# Altium schematic symbol library kmilo17pet-LT_OpAmp_LT2000.SchLib: 1710 symbols (part 74 of 75)
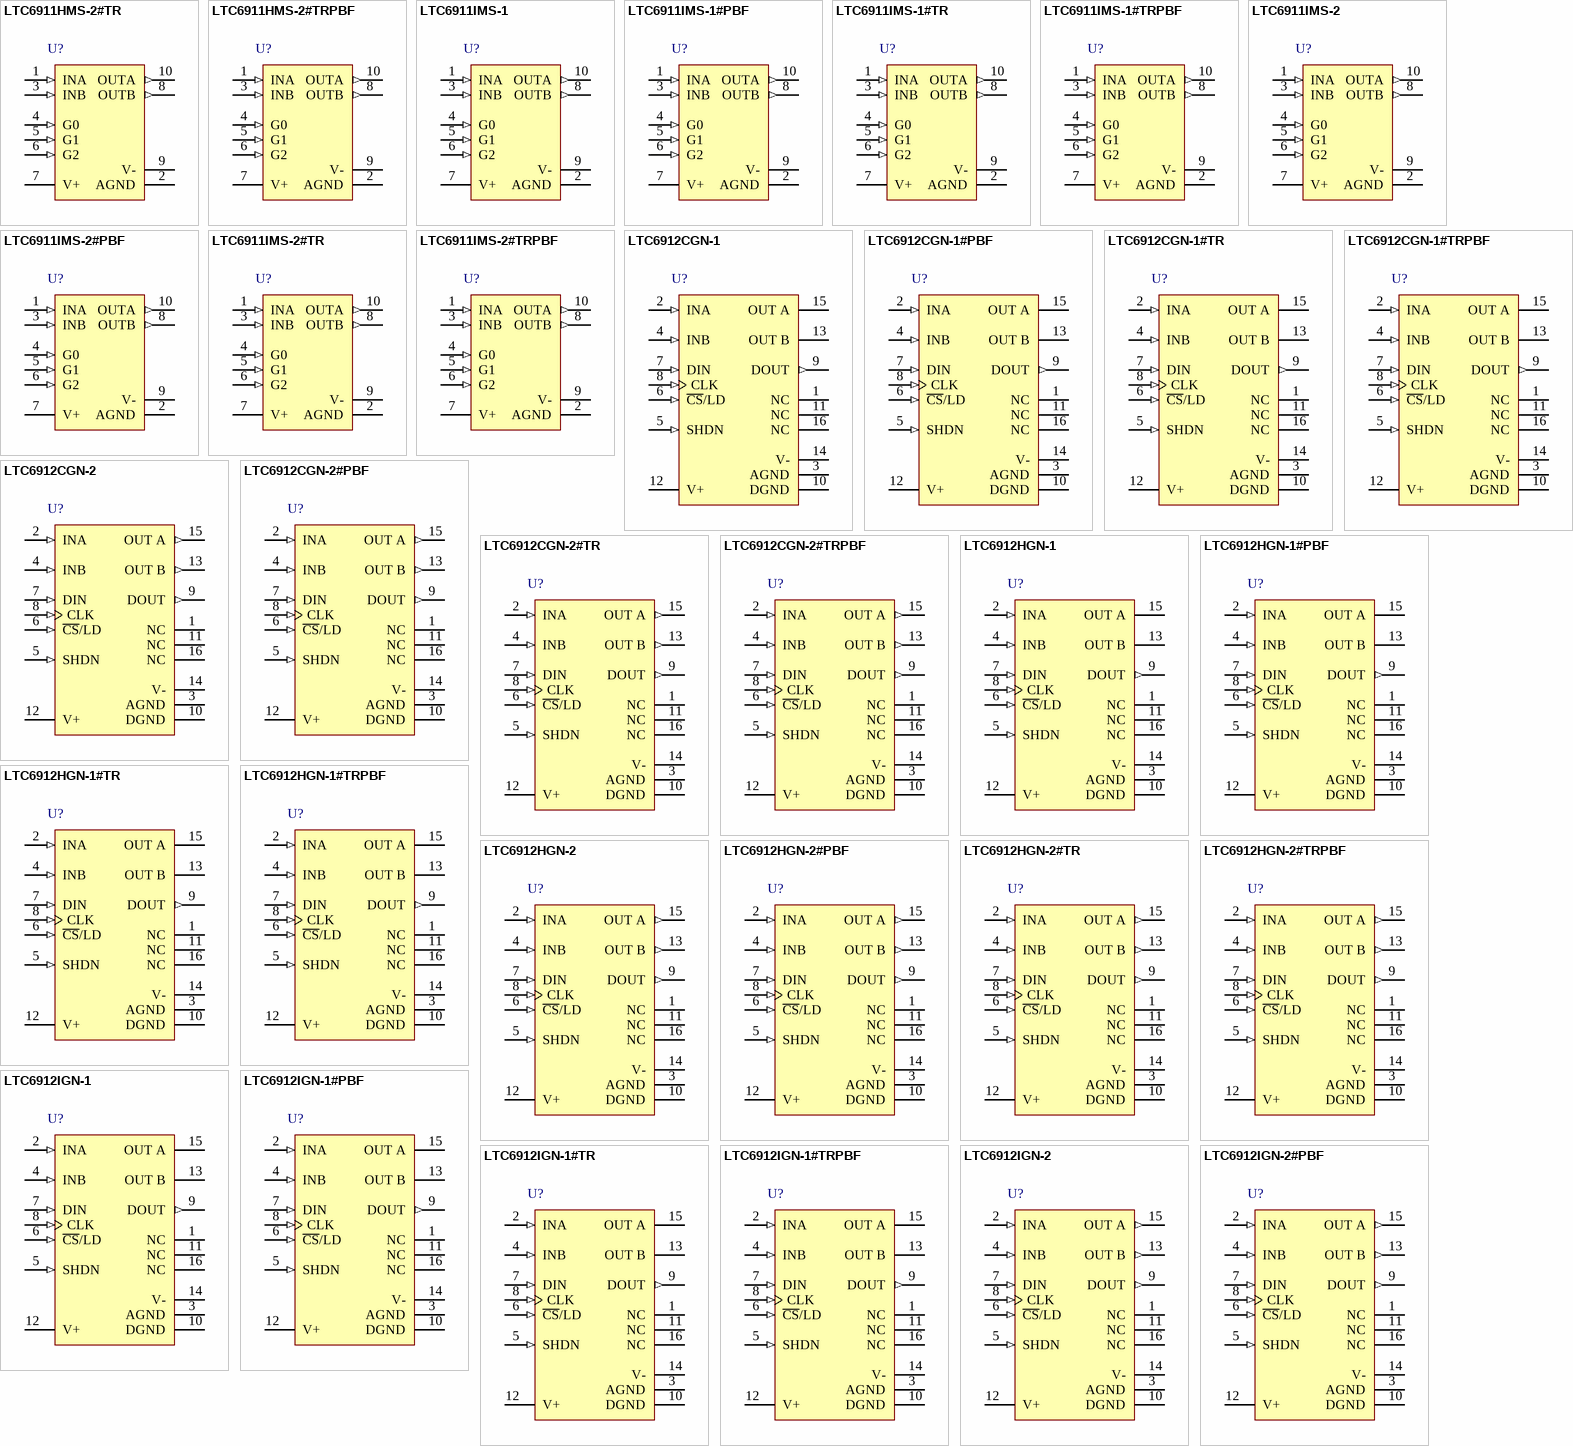
[diagram p153: symbols LTC6911HMS-2#TR to LTC6912IGN-2#PBF]

## LTC6912HGN-2#TRPBF
designator U?
Dual Channel, Dual Programmable Gain Amplifier with Serial Digital Interface, 30 MHz Typical GBW, 16 V/us Typical SR, 2.7 to 10.5 V, 16-Pin SOP (GN-16), High Temperature / Automotive, Pb-Free, Reel; Linear Technology Part Number: LTC6912-2; Manufacturer: Linear Technology; PartNumber: LTC6912HGN-2#TRPBF; Channels (#): 2; GBW (MHz) Typical: 30; Is (mA) Typical: 1.75; SR (V/us) Typical: 16; Vs Max (V): 10.5; Vs Min (V): 2.7; DatasheetVersion: Rev. A; PackageVersion: Rev B; PackageReference: LT-GN-16; PackageDescription: 16-Lead Plastic SSOP, Body 4.9 x 3.9 mm, Pitch 0.635 mm; Supplier 1: Digi-Key; Supplier Part Number 1: LTC6912HGN-2#TRPBF-ND; Packing: Reel; RoHS: Pb-Free; Type: PGA; Vos (mV) Typical: 2; Mounting Technology: Surface Mount; ComponentLink1Description: Manufacturer URL; ComponentLink1URL: http://www.linear.com/; ComponentLink2Description: Datasheet; ComponentLink2URL: http://cds.linear.com/docs/en/datasheet/6912fa.pdf; ComponentLink3Description: Package Specification; ComponentLink3URL: http://cds.linear.com/docs/en/packaging/05081641_B_GN16.pdf
footprint LT-GN-16_N (SOP, 16-Leads, Body 4.9x3.9mm, Pitch 0.635mm, IPC Medium Density)
footprint LT-GN-16_L (SOP, 16-Leads, Body 4.9x3.9mm, Pitch 0.635mm, IPC High Density)
footprint LT-GN-16_M (SOP, 16-Leads, Body 4.9x3.9mm, Pitch 0.635mm, IPC Low Density)
pins: 1 NC, 2 INA (in) "Analog Inputs.", 3 AGND (power) "Analog Ground.", 4 INB (in) "Analog Inputs.", 5 SHDN (in) "CMOS Compatible Logic Hardware Shutdown Input.", 6 ~{CS}/LD (in) "TTL/CMOS Compatible Logic Input.", 7 DIN (in) "TTL/CMOS Compatible Logic Serial Data Input.", 8 CLK (in) "TTL/CMOS Compatible Logic Input.", 9 DOUT (out) "TTL/CMOS Compatible Logic Output.", 10 DGND (power) "Digital Ground: The DGND pin defines the potential from which LOGIC levels VIH and VIL for the 3-wire serial digital interface are referenced.", 11 NC, 12 V+ (power) "Power Supply Pins.", 13 OUT B (out) "Analog Output.", 14 V- (power) "Power Supply Pins.", 15 OUT A (out) "Analog Output.", 16 NC

## LTC6912IGN-1
designator U?
Dual Channel, Dual Programmable Gain Amplifier with Serial Digital Interface, 30 MHz Typical GBW, 16 V/us Typical SR, 2.7 to 10.5 V, 16-Pin SOP (GN-16), Industrial; Linear Technology Part Number: LTC6912-1; Manufacturer: Linear Technology; PartNumber: LTC6912IGN-1; Channels (#): 2; GBW (MHz) Typical: 30; Is (mA) Typical: 1.75; SR (V/us) Typical: 16; Vs Max (V): 10.5; Vs Min (V): 2.7; DatasheetVersion: Rev. A; PackageVersion: Rev B; PackageReference: LT-GN-16; PackageDescription: 16-Lead Plastic SSOP, Body 4.9 x 3.9 mm, Pitch 0.635 mm; Type: PGA; Vos (mV) Typical: 2; Mounting Technology: Surface Mount; ComponentLink1Description: Manufacturer URL; ComponentLink1URL: http://www.linear.com/; ComponentLink2Description: Datasheet; ComponentLink2URL: http://cds.linear.com/docs/en/datasheet/6912fa.pdf; ComponentLink3Description: Package Specification; ComponentLink3URL: http://cds.linear.com/docs/en/packaging/05081641_B_GN16.pdf
footprint LT-GN-16_N (SOP, 16-Leads, Body 4.9x3.9mm, Pitch 0.635mm, IPC Medium Density)
footprint LT-GN-16_L (SOP, 16-Leads, Body 4.9x3.9mm, Pitch 0.635mm, IPC High Density)
footprint LT-GN-16_M (SOP, 16-Leads, Body 4.9x3.9mm, Pitch 0.635mm, IPC Low Density)
pins: 1 NC, 2 INA (in) "Analog Inputs. The input signal to the A channel amplifier of the LTC6912-X is the voltage difference between the INA pin and AGND pin. Likewise, the input signal to the B channel amplifier of the LTC6912-X is the voltage (See Datasheet)", 3 AGND (power), 4 INB (in) "Analog Inputs. The input signal to the A channel amplifier of the LTC6912-X is the voltage difference between the INA pin and AGND pin. Likewise, the input signal to the B channel amplifier of the LTC6912-X is the voltage (See Datasheet)", 5 SHDN (in) "CMOS Compatible Logic Hardware Shutdown Input. The LTC6912-X has two shutdown modes. One is a software shutdown state which can be software programmed into either Channel A, Channel B, or both. The software shutdown, when (See Datasheet)", 6 ~{CS}/LD (in) "TTL/CMOS Compatible Logic Input. When this pin is asserted low, the CLK pin is enabled, and the 8-bit shift register serially shifts the shift register contents and whatever data is present on the DIN pin into the shift (See Datasheet)", 7 DIN (in) "TTL/CMOS Compatible Logic Serial Data Input. The serial interface is synchronously loaded MSB first via DIN on the rising edge of CLK with C\S\/LD asserted low.", 8 CLK (in) "TTL/CMOS Compatible Logic Input. With C\S\/LD asserted low, the clock synchronizes the loading of the serial shift register on its rising and falling edges. Data is shifted in at DIN on the rising edge of CLK and is shifted (See Datasheet)", 9 DOUT (out) "TTL/CMOS Compatible Logic Output. The MSB of the shift register contents is shifted out at DOUT on the falling edge of CLK. The output at DOUT swings between V+ and DGND, and is rated to drive approximately 15pF.", 10 DGND (power) "Digital Ground: The DGND pin defines the potential from which LOGIC levels VIH and VIL for the 3-wire serial digital interface are referenced. The recommended connection of DGND depends on how power is applied to the LTC6912 (See Datasheet)", 11 NC, 12 V+ (power) "Power Supply Pins. The V+ and V- pins should be bypassed with 0.1uF capacitors to an adequate analog ground plane using the shortest possible wiring. Electrically clean supplies and a low impedance ground are important for (See Datasheet)", 13 OUT B (hiz) "Analog Output. These pins are the output of the A and B channel amplifiers respectively. Each operational amplifier can swing rail-to-rail (V+ to V-) as specified in the Electrical Characteristics table. For best (See Datasheet)", 14 V- (power) "Power Supply Pins. The V+ and V- pins should be bypassed with 0.1uF capacitors to an adequate analog ground plane using the shortest possible wiring. Electrically clean supplies and a low impedance ground are important for (See Datasheet)", 15 OUT A (hiz) "Analog Output. These pins are the output of the A and B channel amplifiers respectively. Each operational amplifier can swing rail-to-rail (V+ to V-) as specified in the Electrical Characteristics table. For best (See Datasheet)", 16 NC

## LTC6912IGN-1#PBF
designator U?
Dual Channel, Dual Programmable Gain Amplifier with Serial Digital Interface, 30 MHz Typical GBW, 16 V/us Typical SR, 2.7 to 10.5 V, 16-Pin SOP (GN-16), Industrial, Pb-Free; Linear Technology Part Number: LTC6912-1; Manufacturer: Linear Technology; PartNumber: LTC6912IGN-1#PBF; Channels (#): 2; GBW (MHz) Typical: 30; Is (mA) Typical: 1.75; SR (V/us) Typical: 16; Vs Max (V): 10.5; Vs Min (V): 2.7; DatasheetVersion: Rev. A; PackageVersion: Rev B; PackageReference: LT-GN-16; PackageDescription: 16-Lead Plastic SSOP, Body 4.9 x 3.9 mm, Pitch 0.635 mm; Supplier 1: Digi-Key; Supplier Part Number 1: LTC6912IGN-1#PBF-ND; RoHS: Pb-Free; Type: PGA; Vos (mV) Typical: 2; Mounting Technology: Surface Mount; ComponentLink1Description: Manufacturer URL; ComponentLink1URL: http://www.linear.com/; ComponentLink2Description: Datasheet; ComponentLink2URL: http://cds.linear.com/docs/en/datasheet/6912fa.pdf; ComponentLink3Description: Package Specification; ComponentLink3URL: http://cds.linear.com/docs/en/packaging/05081641_B_GN16.pdf
footprint LT-GN-16_N (SOP, 16-Leads, Body 4.9x3.9mm, Pitch 0.635mm, IPC Medium Density)
footprint LT-GN-16_L (SOP, 16-Leads, Body 4.9x3.9mm, Pitch 0.635mm, IPC High Density)
footprint LT-GN-16_M (SOP, 16-Leads, Body 4.9x3.9mm, Pitch 0.635mm, IPC Low Density)
pins: 1 NC, 2 INA (in) "Analog Inputs. The input signal to the A channel amplifier of the LTC6912-X is the voltage difference between the INA pin and AGND pin. Likewise, the input signal to the B channel amplifier of the LTC6912-X is the voltage (See Datasheet)", 3 AGND (power), 4 INB (in) "Analog Inputs. The input signal to the A channel amplifier of the LTC6912-X is the voltage difference between the INA pin and AGND pin. Likewise, the input signal to the B channel amplifier of the LTC6912-X is the voltage (See Datasheet)", 5 SHDN (in) "CMOS Compatible Logic Hardware Shutdown Input. The LTC6912-X has two shutdown modes. One is a software shutdown state which can be software programmed into either Channel A, Channel B, or both. The software shutdown, when (See Datasheet)", 6 ~{CS}/LD (in) "TTL/CMOS Compatible Logic Input. When this pin is asserted low, the CLK pin is enabled, and the 8-bit shift register serially shifts the shift register contents and whatever data is present on the DIN pin into the shift (See Datasheet)", 7 DIN (in) "TTL/CMOS Compatible Logic Serial Data Input. The serial interface is synchronously loaded MSB first via DIN on the rising edge of CLK with C\S\/LD asserted low.", 8 CLK (in) "TTL/CMOS Compatible Logic Input. With C\S\/LD asserted low, the clock synchronizes the loading of the serial shift register on its rising and falling edges. Data is shifted in at DIN on the rising edge of CLK and is shifted (See Datasheet)", 9 DOUT (out) "TTL/CMOS Compatible Logic Output. The MSB of the shift register contents is shifted out at DOUT on the falling edge of CLK. The output at DOUT swings between V+ and DGND, and is rated to drive approximately 15pF.", 10 DGND (power) "Digital Ground: The DGND pin defines the potential from which LOGIC levels VIH and VIL for the 3-wire serial digital interface are referenced. The recommended connection of DGND depends on how power is applied to the LTC6912 (See Datasheet)", 11 NC, 12 V+ (power) "Power Supply Pins. The V+ and V- pins should be bypassed with 0.1uF capacitors to an adequate analog ground plane using the shortest possible wiring. Electrically clean supplies and a low impedance ground are important for (See Datasheet)", 13 OUT B (hiz) "Analog Output. These pins are the output of the A and B channel amplifiers respectively. Each operational amplifier can swing rail-to-rail (V+ to V-) as specified in the Electrical Characteristics table. For best (See Datasheet)", 14 V- (power) "Power Supply Pins. The V+ and V- pins should be bypassed with 0.1uF capacitors to an adequate analog ground plane using the shortest possible wiring. Electrically clean supplies and a low impedance ground are important for (See Datasheet)", 15 OUT A (hiz) "Analog Output. These pins are the output of the A and B channel amplifiers respectively. Each operational amplifier can swing rail-to-rail (V+ to V-) as specified in the Electrical Characteristics table. For best (See Datasheet)", 16 NC

## LTC6912IGN-1#TR
designator U?
Dual Channel, Dual Programmable Gain Amplifier with Serial Digital Interface, 30 MHz Typical GBW, 16 V/us Typical SR, 2.7 to 10.5 V, 16-Pin SOP (GN-16), Industrial, Reel; Linear Technology Part Number: LTC6912-1; Manufacturer: Linear Technology; PartNumber: LTC6912IGN-1#TR; Channels (#): 2; GBW (MHz) Typical: 30; Is (mA) Typical: 1.75; SR (V/us) Typical: 16; Vs Max (V): 10.5; Vs Min (V): 2.7; DatasheetVersion: Rev. A; PackageVersion: Rev B; PackageReference: LT-GN-16; PackageDescription: 16-Lead Plastic SSOP, Body 4.9 x 3.9 mm, Pitch 0.635 mm; Packing: Reel; Type: PGA; Vos (mV) Typical: 2; Mounting Technology: Surface Mount; ComponentLink1Description: Manufacturer URL; ComponentLink1URL: http://www.linear.com/; ComponentLink2Description: Datasheet; ComponentLink2URL: http://cds.linear.com/docs/en/datasheet/6912fa.pdf; ComponentLink3Description: Package Specification; ComponentLink3URL: http://cds.linear.com/docs/en/packaging/05081641_B_GN16.pdf
footprint LT-GN-16_N (SOP, 16-Leads, Body 4.9x3.9mm, Pitch 0.635mm, IPC Medium Density)
footprint LT-GN-16_L (SOP, 16-Leads, Body 4.9x3.9mm, Pitch 0.635mm, IPC High Density)
footprint LT-GN-16_M (SOP, 16-Leads, Body 4.9x3.9mm, Pitch 0.635mm, IPC Low Density)
pins: 1 NC, 2 INA (in) "Analog Inputs. The input signal to the A channel amplifier of the LTC6912-X is the voltage difference between the INA pin and AGND pin. Likewise, the input signal to the B channel amplifier of the LTC6912-X is the voltage (See Datasheet)", 3 AGND (power), 4 INB (in) "Analog Inputs. The input signal to the A channel amplifier of the LTC6912-X is the voltage difference between the INA pin and AGND pin. Likewise, the input signal to the B channel amplifier of the LTC6912-X is the voltage (See Datasheet)", 5 SHDN (in) "CMOS Compatible Logic Hardware Shutdown Input. The LTC6912-X has two shutdown modes. One is a software shutdown state which can be software programmed into either Channel A, Channel B, or both. The software shutdown, when (See Datasheet)", 6 ~{CS}/LD (in) "TTL/CMOS Compatible Logic Input. When this pin is asserted low, the CLK pin is enabled, and the 8-bit shift register serially shifts the shift register contents and whatever data is present on the DIN pin into the shift (See Datasheet)", 7 DIN (in) "TTL/CMOS Compatible Logic Serial Data Input. The serial interface is synchronously loaded MSB first via DIN on the rising edge of CLK with C\S\/LD asserted low.", 8 CLK (in) "TTL/CMOS Compatible Logic Input. With C\S\/LD asserted low, the clock synchronizes the loading of the serial shift register on its rising and falling edges. Data is shifted in at DIN on the rising edge of CLK and is shifted (See Datasheet)", 9 DOUT (out) "TTL/CMOS Compatible Logic Output. The MSB of the shift register contents is shifted out at DOUT on the falling edge of CLK. The output at DOUT swings between V+ and DGND, and is rated to drive approximately 15pF.", 10 DGND (power) "Digital Ground: The DGND pin defines the potential from which LOGIC levels VIH and VIL for the 3-wire serial digital interface are referenced. The recommended connection of DGND depends on how power is applied to the LTC6912 (See Datasheet)", 11 NC, 12 V+ (power) "Power Supply Pins. The V+ and V- pins should be bypassed with 0.1uF capacitors to an adequate analog ground plane using the shortest possible wiring. Electrically clean supplies and a low impedance ground are important for (See Datasheet)", 13 OUT B (hiz) "Analog Output. These pins are the output of the A and B channel amplifiers respectively. Each operational amplifier can swing rail-to-rail (V+ to V-) as specified in the Electrical Characteristics table. For best (See Datasheet)", 14 V- (power) "Power Supply Pins. The V+ and V- pins should be bypassed with 0.1uF capacitors to an adequate analog ground plane using the shortest possible wiring. Electrically clean supplies and a low impedance ground are important for (See Datasheet)", 15 OUT A (hiz) "Analog Output. These pins are the output of the A and B channel amplifiers respectively. Each operational amplifier can swing rail-to-rail (V+ to V-) as specified in the Electrical Characteristics table. For best (See Datasheet)", 16 NC

## LTC6912IGN-1#TRPBF
designator U?
Dual Channel, Dual Programmable Gain Amplifier with Serial Digital Interface, 30 MHz Typical GBW, 16 V/us Typical SR, 2.7 to 10.5 V, 16-Pin SOP (GN-16), Industrial, Pb-Free, Reel; Linear Technology Part Number: LTC6912-1; Manufacturer: Linear Technology; PartNumber: LTC6912IGN-1#TRPBF; Channels (#): 2; GBW (MHz) Typical: 30; Is (mA) Typical: 1.75; SR (V/us) Typical: 16; Vs Max (V): 10.5; Vs Min (V): 2.7; DatasheetVersion: Rev. A; PackageVersion: Rev B; PackageReference: LT-GN-16; PackageDescription: 16-Lead Plastic SSOP, Body 4.9 x 3.9 mm, Pitch 0.635 mm; Supplier 1: Digi-Key; Supplier Part Number 1: LTC6912IGN-1#TRPBF-ND; Packing: Reel; RoHS: Pb-Free; Type: PGA; Vos (mV) Typical: 2; Mounting Technology: Surface Mount; ComponentLink1Description: Manufacturer URL; ComponentLink1URL: http://www.linear.com/; ComponentLink2Description: Datasheet; ComponentLink2URL: http://cds.linear.com/docs/en/datasheet/6912fa.pdf; ComponentLink3Description: Package Specification; ComponentLink3URL: http://cds.linear.com/docs/en/packaging/05081641_B_GN16.pdf
footprint LT-GN-16_N (SOP, 16-Leads, Body 4.9x3.9mm, Pitch 0.635mm, IPC Medium Density)
footprint LT-GN-16_L (SOP, 16-Leads, Body 4.9x3.9mm, Pitch 0.635mm, IPC High Density)
footprint LT-GN-16_M (SOP, 16-Leads, Body 4.9x3.9mm, Pitch 0.635mm, IPC Low Density)
pins: 1 NC, 2 INA (in) "Analog Inputs. The input signal to the A channel amplifier of the LTC6912-X is the voltage difference between the INA pin and AGND pin. Likewise, the input signal to the B channel amplifier of the LTC6912-X is the voltage (See Datasheet)", 3 AGND (power), 4 INB (in) "Analog Inputs. The input signal to the A channel amplifier of the LTC6912-X is the voltage difference between the INA pin and AGND pin. Likewise, the input signal to the B channel amplifier of the LTC6912-X is the voltage (See Datasheet)", 5 SHDN (in) "CMOS Compatible Logic Hardware Shutdown Input. The LTC6912-X has two shutdown modes. One is a software shutdown state which can be software programmed into either Channel A, Channel B, or both. The software shutdown, when (See Datasheet)", 6 ~{CS}/LD (in) "TTL/CMOS Compatible Logic Input. When this pin is asserted low, the CLK pin is enabled, and the 8-bit shift register serially shifts the shift register contents and whatever data is present on the DIN pin into the shift (See Datasheet)", 7 DIN (in) "TTL/CMOS Compatible Logic Serial Data Input. The serial interface is synchronously loaded MSB first via DIN on the rising edge of CLK with C\S\/LD asserted low.", 8 CLK (in) "TTL/CMOS Compatible Logic Input. With C\S\/LD asserted low, the clock synchronizes the loading of the serial shift register on its rising and falling edges. Data is shifted in at DIN on the rising edge of CLK and is shifted (See Datasheet)", 9 DOUT (out) "TTL/CMOS Compatible Logic Output. The MSB of the shift register contents is shifted out at DOUT on the falling edge of CLK. The output at DOUT swings between V+ and DGND, and is rated to drive approximately 15pF.", 10 DGND (power) "Digital Ground: The DGND pin defines the potential from which LOGIC levels VIH and VIL for the 3-wire serial digital interface are referenced. The recommended connection of DGND depends on how power is applied to the LTC6912 (See Datasheet)", 11 NC, 12 V+ (power) "Power Supply Pins. The V+ and V- pins should be bypassed with 0.1uF capacitors to an adequate analog ground plane using the shortest possible wiring. Electrically clean supplies and a low impedance ground are important for (See Datasheet)", 13 OUT B (hiz) "Analog Output. These pins are the output of the A and B channel amplifiers respectively. Each operational amplifier can swing rail-to-rail (V+ to V-) as specified in the Electrical Characteristics table. For best (See Datasheet)", 14 V- (power) "Power Supply Pins. The V+ and V- pins should be bypassed with 0.1uF capacitors to an adequate analog ground plane using the shortest possible wiring. Electrically clean supplies and a low impedance ground are important for (See Datasheet)", 15 OUT A (hiz) "Analog Output. These pins are the output of the A and B channel amplifiers respectively. Each operational amplifier can swing rail-to-rail (V+ to V-) as specified in the Electrical Characteristics table. For best (See Datasheet)", 16 NC

## LTC6912IGN-2
designator U?
Dual Channel, Dual Programmable Gain Amplifier with Serial Digital Interface, 30 MHz Typical GBW, 16 V/us Typical SR, 2.7 to 10.5 V, 16-Pin SOP (GN-16), Industrial; Linear Technology Part Number: LTC6912-2; Manufacturer: Linear Technology; PartNumber: LTC6912IGN-2; Channels (#): 2; GBW (MHz) Typical: 30; Is (mA) Typical: 1.75; SR (V/us) Typical: 16; Vs Max (V): 10.5; Vs Min (V): 2.7; DatasheetVersion: Rev. A; PackageVersion: Rev B; PackageReference: LT-GN-16; PackageDescription: 16-Lead Plastic SSOP, Body 4.9 x 3.9 mm, Pitch 0.635 mm; Type: PGA; Vos (mV) Typical: 2; Mounting Technology: Surface Mount; ComponentLink1Description: Manufacturer URL; ComponentLink1URL: http://www.linear.com/; ComponentLink2Description: Datasheet; ComponentLink2URL: http://cds.linear.com/docs/en/datasheet/6912fa.pdf; ComponentLink3Description: Package Specification; ComponentLink3URL: http://cds.linear.com/docs/en/packaging/05081641_B_GN16.pdf
footprint LT-GN-16_N (SOP, 16-Leads, Body 4.9x3.9mm, Pitch 0.635mm, IPC Medium Density)
footprint LT-GN-16_L (SOP, 16-Leads, Body 4.9x3.9mm, Pitch 0.635mm, IPC High Density)
footprint LT-GN-16_M (SOP, 16-Leads, Body 4.9x3.9mm, Pitch 0.635mm, IPC Low Density)
pins: 1 NC, 2 INA (in) "Analog Inputs.", 3 AGND (power) "Analog Ground.", 4 INB (in) "Analog Inputs.", 5 SHDN (in) "CMOS Compatible Logic Hardware Shutdown Input.", 6 ~{CS}/LD (in) "TTL/CMOS Compatible Logic Input.", 7 DIN (in) "TTL/CMOS Compatible Logic Serial Data Input.", 8 CLK (in) "TTL/CMOS Compatible Logic Input.", 9 DOUT (out) "TTL/CMOS Compatible Logic Output.", 10 DGND (power) "Digital Ground: The DGND pin defines the potential from which LOGIC levels VIH and VIL for the 3-wire serial digital interface are referenced.", 11 NC, 12 V+ (power) "Power Supply Pins.", 13 OUT B (out) "Analog Output.", 14 V- (power) "Power Supply Pins.", 15 OUT A (out) "Analog Output.", 16 NC

## LTC6912IGN-2#PBF
designator U?
Dual Channel, Dual Programmable Gain Amplifier with Serial Digital Interface, 30 MHz Typical GBW, 16 V/us Typical SR, 2.7 to 10.5 V, 16-Pin SOP (GN-16), Industrial, Pb-Free; Linear Technology Part Number: LTC6912-2; Manufacturer: Linear Technology; PartNumber: LTC6912IGN-2#PBF; Channels (#): 2; GBW (MHz) Typical: 30; Is (mA) Typical: 1.75; SR (V/us) Typical: 16; Vs Max (V): 10.5; Vs Min (V): 2.7; DatasheetVersion: Rev. A; PackageVersion: Rev B; PackageReference: LT-GN-16; PackageDescription: 16-Lead Plastic SSOP, Body 4.9 x 3.9 mm, Pitch 0.635 mm; Supplier 1: Digi-Key; Supplier Part Number 1: LTC6912IGN-2#PBF-ND; Supplier 2: Newark; Supplier Part Number 2: 57M0425; RoHS: Pb-Free; Type: PGA; Vos (mV) Typical: 2; Mounting Technology: Surface Mount; ComponentLink1Description: Manufacturer URL; ComponentLink1URL: http://www.linear.com/; ComponentLink2Description: Datasheet; ComponentLink2URL: http://cds.linear.com/docs/en/datasheet/6912fa.pdf; ComponentLink3Description: Package Specification; ComponentLink3URL: http://cds.linear.com/docs/en/packaging/05081641_B_GN16.pdf
footprint LT-GN-16_N (SOP, 16-Leads, Body 4.9x3.9mm, Pitch 0.635mm, IPC Medium Density)
footprint LT-GN-16_L (SOP, 16-Leads, Body 4.9x3.9mm, Pitch 0.635mm, IPC High Density)
footprint LT-GN-16_M (SOP, 16-Leads, Body 4.9x3.9mm, Pitch 0.635mm, IPC Low Density)
pins: 1 NC, 2 INA (in) "Analog Inputs.", 3 AGND (power) "Analog Ground.", 4 INB (in) "Analog Inputs.", 5 SHDN (in) "CMOS Compatible Logic Hardware Shutdown Input.", 6 ~{CS}/LD (in) "TTL/CMOS Compatible Logic Input.", 7 DIN (in) "TTL/CMOS Compatible Logic Serial Data Input.", 8 CLK (in) "TTL/CMOS Compatible Logic Input.", 9 DOUT (out) "TTL/CMOS Compatible Logic Output.", 10 DGND (power) "Digital Ground: The DGND pin defines the potential from which LOGIC levels VIH and VIL for the 3-wire serial digital interface are referenced.", 11 NC, 12 V+ (power) "Power Supply Pins.", 13 OUT B (out) "Analog Output.", 14 V- (power) "Power Supply Pins.", 15 OUT A (out) "Analog Output.", 16 NC

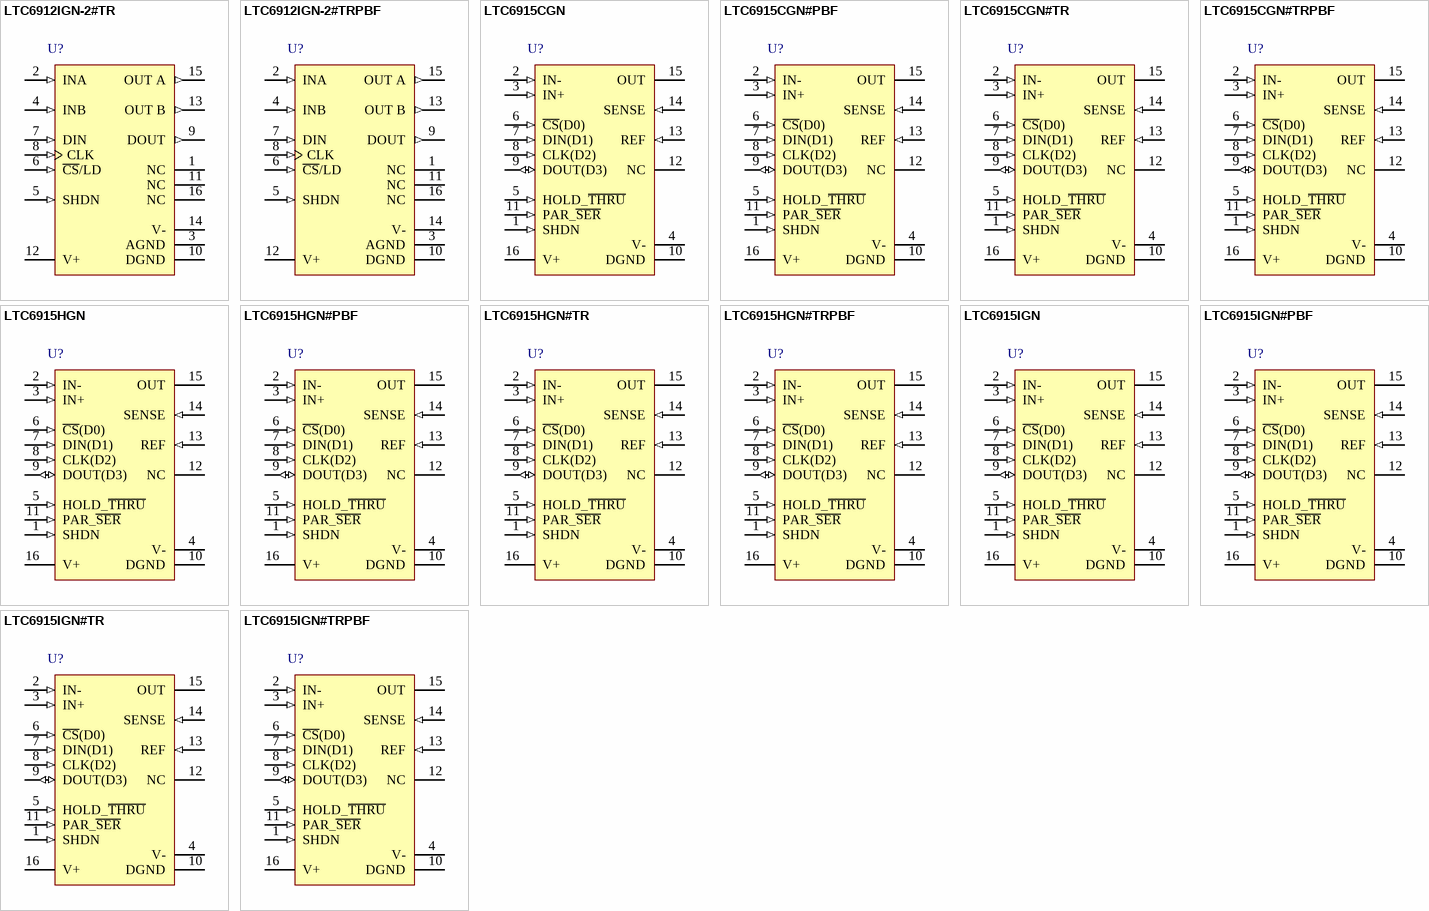
[diagram p80: symbols LTC6912IGN-2#TR to LTC6915IGN#TRPBF]

## LTC6912IGN-2#TR
designator U?
Dual Channel, Dual Programmable Gain Amplifier with Serial Digital Interface, 30 MHz Typical GBW, 16 V/us Typical SR, 2.7 to 10.5 V, 16-Pin SOP (GN-16), Industrial, Reel; Linear Technology Part Number: LTC6912-2; Manufacturer: Linear Technology; PartNumber: LTC6912IGN-2#TR; Channels (#): 2; GBW (MHz) Typical: 30; Is (mA) Typical: 1.75; SR (V/us) Typical: 16; Vs Max (V): 10.5; Vs Min (V): 2.7; DatasheetVersion: Rev. A; PackageVersion: Rev B; PackageReference: LT-GN-16; PackageDescription: 16-Lead Plastic SSOP, Body 4.9 x 3.9 mm, Pitch 0.635 mm; Packing: Reel; Type: PGA; Vos (mV) Typical: 2; Mounting Technology: Surface Mount; ComponentLink1Description: Manufacturer URL; ComponentLink1URL: http://www.linear.com/; ComponentLink2Description: Datasheet; ComponentLink2URL: http://cds.linear.com/docs/en/datasheet/6912fa.pdf; ComponentLink3Description: Package Specification; ComponentLink3URL: http://cds.linear.com/docs/en/packaging/05081641_B_GN16.pdf
footprint LT-GN-16_N (SOP, 16-Leads, Body 4.9x3.9mm, Pitch 0.635mm, IPC Medium Density)
footprint LT-GN-16_L (SOP, 16-Leads, Body 4.9x3.9mm, Pitch 0.635mm, IPC High Density)
footprint LT-GN-16_M (SOP, 16-Leads, Body 4.9x3.9mm, Pitch 0.635mm, IPC Low Density)
pins: 1 NC, 2 INA (in) "Analog Inputs.", 3 AGND (power) "Analog Ground.", 4 INB (in) "Analog Inputs.", 5 SHDN (in) "CMOS Compatible Logic Hardware Shutdown Input.", 6 ~{CS}/LD (in) "TTL/CMOS Compatible Logic Input.", 7 DIN (in) "TTL/CMOS Compatible Logic Serial Data Input.", 8 CLK (in) "TTL/CMOS Compatible Logic Input.", 9 DOUT (out) "TTL/CMOS Compatible Logic Output.", 10 DGND (power) "Digital Ground: The DGND pin defines the potential from which LOGIC levels VIH and VIL for the 3-wire serial digital interface are referenced.", 11 NC, 12 V+ (power) "Power Supply Pins.", 13 OUT B (out) "Analog Output.", 14 V- (power) "Power Supply Pins.", 15 OUT A (out) "Analog Output.", 16 NC

## LTC6912IGN-2#TRPBF
designator U?
Dual Channel, Dual Programmable Gain Amplifier with Serial Digital Interface, 30 MHz Typical GBW, 16 V/us Typical SR, 2.7 to 10.5 V, 16-Pin SOP (GN-16), Industrial, Pb-Free, Reel; Linear Technology Part Number: LTC6912-2; Manufacturer: Linear Technology; PartNumber: LTC6912IGN-2#TRPBF; Channels (#): 2; GBW (MHz) Typical: 30; Is (mA) Typical: 1.75; SR (V/us) Typical: 16; Vs Max (V): 10.5; Vs Min (V): 2.7; DatasheetVersion: Rev. A; PackageVersion: Rev B; PackageReference: LT-GN-16; PackageDescription: 16-Lead Plastic SSOP, Body 4.9 x 3.9 mm, Pitch 0.635 mm; Supplier 1: Digi-Key; Supplier Part Number 1: LTC6912IGN-2#TRPBF-ND; Packing: Reel; RoHS: Pb-Free; Type: PGA; Vos (mV) Typical: 2; Mounting Technology: Surface Mount; ComponentLink1Description: Manufacturer URL; ComponentLink1URL: http://www.linear.com/; ComponentLink2Description: Datasheet; ComponentLink2URL: http://cds.linear.com/docs/en/datasheet/6912fa.pdf; ComponentLink3Description: Package Specification; ComponentLink3URL: http://cds.linear.com/docs/en/packaging/05081641_B_GN16.pdf
footprint LT-GN-16_N (SOP, 16-Leads, Body 4.9x3.9mm, Pitch 0.635mm, IPC Medium Density)
footprint LT-GN-16_L (SOP, 16-Leads, Body 4.9x3.9mm, Pitch 0.635mm, IPC High Density)
footprint LT-GN-16_M (SOP, 16-Leads, Body 4.9x3.9mm, Pitch 0.635mm, IPC Low Density)
pins: 1 NC, 2 INA (in) "Analog Inputs.", 3 AGND (power) "Analog Ground.", 4 INB (in) "Analog Inputs.", 5 SHDN (in) "CMOS Compatible Logic Hardware Shutdown Input.", 6 ~{CS}/LD (in) "TTL/CMOS Compatible Logic Input.", 7 DIN (in) "TTL/CMOS Compatible Logic Serial Data Input.", 8 CLK (in) "TTL/CMOS Compatible Logic Input.", 9 DOUT (out) "TTL/CMOS Compatible Logic Output.", 10 DGND (power) "Digital Ground: The DGND pin defines the potential from which LOGIC levels VIH and VIL for the 3-wire serial digital interface are referenced.", 11 NC, 12 V+ (power) "Power Supply Pins.", 13 OUT B (out) "Analog Output.", 14 V- (power) "Power Supply Pins.", 15 OUT A (out) "Analog Output.", 16 NC

## LTC6915CGN
designator U?
Single Channel, Zero Drift, Precision Instrumentation Amplifier with Digitally Programmable Gain, 0.2 MHz Typical GBW, 0.2 V/us Typical SR, 2.7 to 11 V, 16-Pin SOP (GN-16), Commercial; Linear Technology Part Number: LTC6915; Manufacturer: Linear Technology; PartNumber: LTC6915CGN; Channels (#): 1; GBW (MHz) Typical: 0.2; Is (mA) Typical: 1.1; Vos (mV) Typical: 0.003; Vs Max (V): 11; Vs Min (V): 2.7; DatasheetVersion: Rev. B; PackageVersion: Rev B; PackageReference: LT-GN-16; PackageDescription: 16-Lead Plastic SSOP, Body 4.9 x 3.9 mm, Pitch 0.635 mm; Supplier 1: Digi-Key; Supplier Part Number 1: LTC6915CGN-ND; SR (V/us) Typical: 0.2; Type: IA, ZD, PGA; Mounting Technology: Surface Mount; ComponentLink1Description: Manufacturer URL; ComponentLink1URL: http://www.linear.com/; ComponentLink2Description: Datasheet; ComponentLink2URL: http://cds.linear.com/docs/en/datasheet/6915fb.pdf; ComponentLink3Description: Package Specification; ComponentLink3URL: http://cds.linear.com/docs/en/packaging/05081641_B_GN16.pdf
footprint LT-GN-16_N (SOP, 16-Leads, Body 4.9x3.9mm, Pitch 0.635mm, IPC Medium Density)
footprint LT-GN-16_L (SOP, 16-Leads, Body 4.9x3.9mm, Pitch 0.635mm, IPC High Density)
footprint LT-GN-16_M (SOP, 16-Leads, Body 4.9x3.9mm, Pitch 0.635mm, IPC Low Density)
pins: 1 SHDN (in) "Shutdown Pin. The IC is shut down when SHDN is tied to V+. An internal current source pulls this pin to V- when floating.", 2 IN- (in) "Inverting Analog Input.", 3 IN+ (in) "Noninverting Analog Input.", 4 V- (power) "Negative Supply.", 5 HOLD_~{THRU} (in) "TTL Level Input for Parallel Control Mode. When HOLD_T\H\R\U\ is high, the parallel data is latched in an internal D-latch.", 6 ~{CS}(D0) (in) "TTL Level Input. When in serial control mode, this pin is the chip select input (active low); in parallel control mode, this pin is the LSB of the parallel gain control code.", 7 DIN(D1) (in) "TTL Level Input. When in serial control mode, this pin is the serial input data; in parallel mode, this pin is the second LSB of the parallel gain control code.", 8 CLK(D2) (in) "TTL Level Input. When in serial control mode, this pin is the clock of the serial interface; in parallel mode, this pin is the third LSB of the parallel gain control code.", 9 DOUT(D3) (io) "TTL Level Input. When in serial control mode, this pin is the output of the serial data; in parallel mode, this pin is the MSB of the 4-bit parallel gain control code.", 10 DGND (power) "Digital Ground.", 11 PAR_~{SER} (in) "Interface Selection Input. When tied to V+, the interface is in parallel mode, i.e., the PGA gain is defined by the parallel codes (D3 ~ D0), i.e., C\S\(D0), DATA(D1), CLK(D2), and DOUT(D3). When PARALLEL_S\E\R\I\A\L\ pin is (See Datasheet)", 12 NC "Not connected", 13 REF (in) "Voltage Reference for PGA output.", 14 SENSE (in) "Sense Pin. When the PGA drives a low resistance load and the interconnect resistance between the OUT pin and the load is not negligible, tying the SENSE pin as close as possible to the load can improve the gain accuracy.", 15 OUT (hiz) "Amplifier Output. The typical current sourcing/sinking of the OUT pin is 1mA. For minimum gain error, the load resistance should be 1k or greater (refer to the Output Voltage Swing vs Output Current and Gain Error vs Load (See Datasheet)", 16 V+ (power) "Positive Supply."

## LTC6915CGN#PBF
designator U?
Single Channel, Zero Drift, Precision Instrumentation Amplifier with Digitally Programmable Gain, 0.2 MHz Typical GBW, 0.2 V/us Typical SR, 2.7 to 11 V, 16-Pin SOP (GN-16), Commercial, Pb-Free; Linear Technology Part Number: LTC6915; Manufacturer: Linear Technology; PartNumber: LTC6915CGN#PBF; Channels (#): 1; GBW (MHz) Typical: 0.2; Is (mA) Typical: 1.1; Vos (mV) Typical: 0.003; Vs Max (V): 11; Vs Min (V): 2.7; DatasheetVersion: Rev. B; PackageVersion: Rev B; PackageReference: LT-GN-16; PackageDescription: 16-Lead Plastic SSOP, Body 4.9 x 3.9 mm, Pitch 0.635 mm; Supplier 1: Digi-Key; Supplier Part Number 1: LTC6915CGN#PBF-ND; Supplier 2: Farnell; Supplier Part Number 2: 2356058; Supplier 3: Newark; Supplier Part Number 3: 57M0433; RoHS: Pb-Free; SR (V/us) Typical: 0.2; Type: IA, ZD, PGA; Mounting Technology: Surface Mount; ComponentLink1Description: Manufacturer URL; ComponentLink1URL: http://www.linear.com/; ComponentLink2Description: Datasheet; ComponentLink2URL: http://cds.linear.com/docs/en/datasheet/6915fb.pdf; ComponentLink3Description: Package Specification; ComponentLink3URL: http://cds.linear.com/docs/en/packaging/05081641_B_GN16.pdf
footprint LT-GN-16_N (SOP, 16-Leads, Body 4.9x3.9mm, Pitch 0.635mm, IPC Medium Density)
footprint LT-GN-16_L (SOP, 16-Leads, Body 4.9x3.9mm, Pitch 0.635mm, IPC High Density)
footprint LT-GN-16_M (SOP, 16-Leads, Body 4.9x3.9mm, Pitch 0.635mm, IPC Low Density)
pins: 1 SHDN (in) "Shutdown Pin. The IC is shut down when SHDN is tied to V+. An internal current source pulls this pin to V- when floating.", 2 IN- (in) "Inverting Analog Input.", 3 IN+ (in) "Noninverting Analog Input.", 4 V- (power) "Negative Supply.", 5 HOLD_~{THRU} (in) "TTL Level Input for Parallel Control Mode. When HOLD_T\H\R\U\ is high, the parallel data is latched in an internal D-latch.", 6 ~{CS}(D0) (in) "TTL Level Input. When in serial control mode, this pin is the chip select input (active low); in parallel control mode, this pin is the LSB of the parallel gain control code.", 7 DIN(D1) (in) "TTL Level Input. When in serial control mode, this pin is the serial input data; in parallel mode, this pin is the second LSB of the parallel gain control code.", 8 CLK(D2) (in) "TTL Level Input. When in serial control mode, this pin is the clock of the serial interface; in parallel mode, this pin is the third LSB of the parallel gain control code.", 9 DOUT(D3) (io) "TTL Level Input. When in serial control mode, this pin is the output of the serial data; in parallel mode, this pin is the MSB of the 4-bit parallel gain control code.", 10 DGND (power) "Digital Ground.", 11 PAR_~{SER} (in) "Interface Selection Input. When tied to V+, the interface is in parallel mode, i.e., the PGA gain is defined by the parallel codes (D3 ~ D0), i.e., C\S\(D0), DATA(D1), CLK(D2), and DOUT(D3). When PARALLEL_S\E\R\I\A\L\ pin is (See Datasheet)", 12 NC "Not connected", 13 REF (in) "Voltage Reference for PGA output.", 14 SENSE (in) "Sense Pin. When the PGA drives a low resistance load and the interconnect resistance between the OUT pin and the load is not negligible, tying the SENSE pin as close as possible to the load can improve the gain accuracy.", 15 OUT (hiz) "Amplifier Output. The typical current sourcing/sinking of the OUT pin is 1mA. For minimum gain error, the load resistance should be 1k or greater (refer to the Output Voltage Swing vs Output Current and Gain Error vs Load (See Datasheet)", 16 V+ (power) "Positive Supply."

## LTC6915CGN#TR
designator U?
Single Channel, Zero Drift, Precision Instrumentation Amplifier with Digitally Programmable Gain, 0.2 MHz Typical GBW, 0.2 V/us Typical SR, 2.7 to 11 V, 16-Pin SOP (GN-16), Commercial, Reel; Linear Technology Part Number: LTC6915; Manufacturer: Linear Technology; PartNumber: LTC6915CGN#TR; Channels (#): 1; GBW (MHz) Typical: 0.2; Is (mA) Typical: 1.1; Vos (mV) Typical: 0.003; Vs Max (V): 11; Vs Min (V): 2.7; DatasheetVersion: Rev. B; PackageVersion: Rev B; PackageReference: LT-GN-16; PackageDescription: 16-Lead Plastic SSOP, Body 4.9 x 3.9 mm, Pitch 0.635 mm; Supplier 1: Digi-Key; Supplier Part Number 1: LTC6915CGN#TR-ND; Packing: Reel; SR (V/us) Typical: 0.2; Type: IA, ZD, PGA; Mounting Technology: Surface Mount; ComponentLink1Description: Manufacturer URL; ComponentLink1URL: http://www.linear.com/; ComponentLink2Description: Datasheet; ComponentLink2URL: http://cds.linear.com/docs/en/datasheet/6915fb.pdf; ComponentLink3Description: Package Specification; ComponentLink3URL: http://cds.linear.com/docs/en/packaging/05081641_B_GN16.pdf
footprint LT-GN-16_N (SOP, 16-Leads, Body 4.9x3.9mm, Pitch 0.635mm, IPC Medium Density)
footprint LT-GN-16_L (SOP, 16-Leads, Body 4.9x3.9mm, Pitch 0.635mm, IPC High Density)
footprint LT-GN-16_M (SOP, 16-Leads, Body 4.9x3.9mm, Pitch 0.635mm, IPC Low Density)
pins: 1 SHDN (in) "Shutdown Pin. The IC is shut down when SHDN is tied to V+. An internal current source pulls this pin to V- when floating.", 2 IN- (in) "Inverting Analog Input.", 3 IN+ (in) "Noninverting Analog Input.", 4 V- (power) "Negative Supply.", 5 HOLD_~{THRU} (in) "TTL Level Input for Parallel Control Mode. When HOLD_T\H\R\U\ is high, the parallel data is latched in an internal D-latch.", 6 ~{CS}(D0) (in) "TTL Level Input. When in serial control mode, this pin is the chip select input (active low); in parallel control mode, this pin is the LSB of the parallel gain control code.", 7 DIN(D1) (in) "TTL Level Input. When in serial control mode, this pin is the serial input data; in parallel mode, this pin is the second LSB of the parallel gain control code.", 8 CLK(D2) (in) "TTL Level Input. When in serial control mode, this pin is the clock of the serial interface; in parallel mode, this pin is the third LSB of the parallel gain control code.", 9 DOUT(D3) (io) "TTL Level Input. When in serial control mode, this pin is the output of the serial data; in parallel mode, this pin is the MSB of the 4-bit parallel gain control code.", 10 DGND (power) "Digital Ground.", 11 PAR_~{SER} (in) "Interface Selection Input. When tied to V+, the interface is in parallel mode, i.e., the PGA gain is defined by the parallel codes (D3 ~ D0), i.e., C\S\(D0), DATA(D1), CLK(D2), and DOUT(D3). When PARALLEL_S\E\R\I\A\L\ pin is (See Datasheet)", 12 NC "Not connected", 13 REF (in) "Voltage Reference for PGA output.", 14 SENSE (in) "Sense Pin. When the PGA drives a low resistance load and the interconnect resistance between the OUT pin and the load is not negligible, tying the SENSE pin as close as possible to the load can improve the gain accuracy.", 15 OUT (hiz) "Amplifier Output. The typical current sourcing/sinking of the OUT pin is 1mA. For minimum gain error, the load resistance should be 1k or greater (refer to the Output Voltage Swing vs Output Current and Gain Error vs Load (See Datasheet)", 16 V+ (power) "Positive Supply."

## LTC6915CGN#TRPBF
designator U?
Single Channel, Zero Drift, Precision Instrumentation Amplifier with Digitally Programmable Gain, 0.2 MHz Typical GBW, 0.2 V/us Typical SR, 2.7 to 11 V, 16-Pin SOP (GN-16), Commercial, Pb-Free, Reel; Linear Technology Part Number: LTC6915; Manufacturer: Linear Technology; PartNumber: LTC6915CGN#TRPBF; Channels (#): 1; GBW (MHz) Typical: 0.2; Is (mA) Typical: 1.1; Vos (mV) Typical: 0.003; Vs Max (V): 11; Vs Min (V): 2.7; DatasheetVersion: Rev. B; PackageVersion: Rev B; PackageReference: LT-GN-16; PackageDescription: 16-Lead Plastic SSOP, Body 4.9 x 3.9 mm, Pitch 0.635 mm; Supplier 1: Digi-Key; Supplier Part Number 1: LTC6915CGN#TRPBF-ND; Packing: Reel; RoHS: Pb-Free; SR (V/us) Typical: 0.2; Type: IA, ZD, PGA; Mounting Technology: Surface Mount; ComponentLink1Description: Manufacturer URL; ComponentLink1URL: http://www.linear.com/; ComponentLink2Description: Datasheet; ComponentLink2URL: http://cds.linear.com/docs/en/datasheet/6915fb.pdf; ComponentLink3Description: Package Specification; ComponentLink3URL: http://cds.linear.com/docs/en/packaging/05081641_B_GN16.pdf
footprint LT-GN-16_N (SOP, 16-Leads, Body 4.9x3.9mm, Pitch 0.635mm, IPC Medium Density)
footprint LT-GN-16_L (SOP, 16-Leads, Body 4.9x3.9mm, Pitch 0.635mm, IPC High Density)
footprint LT-GN-16_M (SOP, 16-Leads, Body 4.9x3.9mm, Pitch 0.635mm, IPC Low Density)
pins: 1 SHDN (in) "Shutdown Pin. The IC is shut down when SHDN is tied to V+. An internal current source pulls this pin to V- when floating.", 2 IN- (in) "Inverting Analog Input.", 3 IN+ (in) "Noninverting Analog Input.", 4 V- (power) "Negative Supply.", 5 HOLD_~{THRU} (in) "TTL Level Input for Parallel Control Mode. When HOLD_T\H\R\U\ is high, the parallel data is latched in an internal D-latch.", 6 ~{CS}(D0) (in) "TTL Level Input. When in serial control mode, this pin is the chip select input (active low); in parallel control mode, this pin is the LSB of the parallel gain control code.", 7 DIN(D1) (in) "TTL Level Input. When in serial control mode, this pin is the serial input data; in parallel mode, this pin is the second LSB of the parallel gain control code.", 8 CLK(D2) (in) "TTL Level Input. When in serial control mode, this pin is the clock of the serial interface; in parallel mode, this pin is the third LSB of the parallel gain control code.", 9 DOUT(D3) (io) "TTL Level Input. When in serial control mode, this pin is the output of the serial data; in parallel mode, this pin is the MSB of the 4-bit parallel gain control code.", 10 DGND (power) "Digital Ground.", 11 PAR_~{SER} (in) "Interface Selection Input. When tied to V+, the interface is in parallel mode, i.e., the PGA gain is defined by the parallel codes (D3 ~ D0), i.e., C\S\(D0), DATA(D1), CLK(D2), and DOUT(D3). When PARALLEL_S\E\R\I\A\L\ pin is (See Datasheet)", 12 NC "Not connected", 13 REF (in) "Voltage Reference for PGA output.", 14 SENSE (in) "Sense Pin. When the PGA drives a low resistance load and the interconnect resistance between the OUT pin and the load is not negligible, tying the SENSE pin as close as possible to the load can improve the gain accuracy.", 15 OUT (hiz) "Amplifier Output. The typical current sourcing/sinking of the OUT pin is 1mA. For minimum gain error, the load resistance should be 1k or greater (refer to the Output Voltage Swing vs Output Current and Gain Error vs Load (See Datasheet)", 16 V+ (power) "Positive Supply."

## LTC6915HGN
designator U?
Single Channel, Zero Drift, Precision Instrumentation Amplifier with Digitally Programmable Gain, 0.2 MHz Typical GBW, 0.2 V/us Typical SR, 2.7 to 11 V, 16-Pin SOP (GN-16), High Temperature / Automotive; Linear Technology Part Number: LTC6915; Manufacturer: Linear Technology; PartNumber: LTC6915HGN; Channels (#): 1; GBW (MHz) Typical: 0.2; Is (mA) Typical: 1.1; Vos (mV) Typical: 0.003; Vs Max (V): 11; Vs Min (V): 2.7; DatasheetVersion: Rev. B; PackageVersion: Rev B; PackageReference: LT-GN-16; PackageDescription: 16-Lead Plastic SSOP, Body 4.9 x 3.9 mm, Pitch 0.635 mm; Supplier 1: Digi-Key; Supplier Part Number 1: LTC6915HGN-ND; SR (V/us) Typical: 0.2; Type: IA, ZD, PGA; Mounting Technology: Surface Mount; ComponentLink1Description: Manufacturer URL; ComponentLink1URL: http://www.linear.com/; ComponentLink2Description: Datasheet; ComponentLink2URL: http://cds.linear.com/docs/en/datasheet/6915fb.pdf; ComponentLink3Description: Package Specification; ComponentLink3URL: http://cds.linear.com/docs/en/packaging/05081641_B_GN16.pdf
footprint LT-GN-16_N (SOP, 16-Leads, Body 4.9x3.9mm, Pitch 0.635mm, IPC Medium Density)
footprint LT-GN-16_L (SOP, 16-Leads, Body 4.9x3.9mm, Pitch 0.635mm, IPC High Density)
footprint LT-GN-16_M (SOP, 16-Leads, Body 4.9x3.9mm, Pitch 0.635mm, IPC Low Density)
pins: 1 SHDN (in) "Shutdown Pin. The IC is shut down when SHDN is tied to V+. An internal current source pulls this pin to V- when floating.", 2 IN- (in) "Inverting Analog Input.", 3 IN+ (in) "Noninverting Analog Input.", 4 V- (power) "Negative Supply.", 5 HOLD_~{THRU} (in) "TTL Level Input for Parallel Control Mode. When HOLD_T\H\R\U\ is high, the parallel data is latched in an internal D-latch.", 6 ~{CS}(D0) (in) "TTL Level Input. When in serial control mode, this pin is the chip select input (active low); in parallel control mode, this pin is the LSB of the parallel gain control code.", 7 DIN(D1) (in) "TTL Level Input. When in serial control mode, this pin is the serial input data; in parallel mode, this pin is the second LSB of the parallel gain control code.", 8 CLK(D2) (in) "TTL Level Input. When in serial control mode, this pin is the clock of the serial interface; in parallel mode, this pin is the third LSB of the parallel gain control code.", 9 DOUT(D3) (io) "TTL Level Input. When in serial control mode, this pin is the output of the serial data; in parallel mode, this pin is the MSB of the 4-bit parallel gain control code.", 10 DGND (power) "Digital Ground.", 11 PAR_~{SER} (in) "Interface Selection Input. When tied to V+, the interface is in parallel mode, i.e., the PGA gain is defined by the parallel codes (D3 ~ D0), i.e., C\S\(D0), DATA(D1), CLK(D2), and DOUT(D3). When PARALLEL_S\E\R\I\A\L\ pin is (See Datasheet)", 12 NC "Not connected", 13 REF (in) "Voltage Reference for PGA output.", 14 SENSE (in) "Sense Pin. When the PGA drives a low resistance load and the interconnect resistance between the OUT pin and the load is not negligible, tying the SENSE pin as close as possible to the load can improve the gain accuracy.", 15 OUT (hiz) "Amplifier Output. The typical current sourcing/sinking of the OUT pin is 1mA. For minimum gain error, the load resistance should be 1k or greater (refer to the Output Voltage Swing vs Output Current and Gain Error vs Load (See Datasheet)", 16 V+ (power) "Positive Supply."

## LTC6915HGN#PBF
designator U?
Single Channel, Zero Drift, Precision Instrumentation Amplifier with Digitally Programmable Gain, 0.2 MHz Typical GBW, 0.2 V/us Typical SR, 2.7 to 11 V, 16-Pin SOP (GN-16), High Temperature / Automotive, Pb-Free; Linear Technology Part Number: LTC6915; Manufacturer: Linear Technology; PartNumber: LTC6915HGN#PBF; Channels (#): 1; GBW (MHz) Typical: 0.2; Is (mA) Typical: 1.1; Vos (mV) Typical: 0.003; Vs Max (V): 11; Vs Min (V): 2.7; DatasheetVersion: Rev. B; PackageVersion: Rev B; PackageReference: LT-GN-16; PackageDescription: 16-Lead Plastic SSOP, Body 4.9 x 3.9 mm, Pitch 0.635 mm; Supplier 1: Digi-Key; Supplier Part Number 1: LTC6915HGN#PBF-ND; Supplier 2: Farnell; Supplier Part Number 2: 2356059; Supplier 3: Newark; Supplier Part Number 3: 57M0437; RoHS: Pb-Free; SR (V/us) Typical: 0.2; Type: IA, ZD, PGA; Mounting Technology: Surface Mount; ComponentLink1Description: Manufacturer URL; ComponentLink1URL: http://www.linear.com/; ComponentLink2Description: Datasheet; ComponentLink2URL: http://cds.linear.com/docs/en/datasheet/6915fb.pdf; ComponentLink3Description: Package Specification; ComponentLink3URL: http://cds.linear.com/docs/en/packaging/05081641_B_GN16.pdf
footprint LT-GN-16_N (SOP, 16-Leads, Body 4.9x3.9mm, Pitch 0.635mm, IPC Medium Density)
footprint LT-GN-16_L (SOP, 16-Leads, Body 4.9x3.9mm, Pitch 0.635mm, IPC High Density)
footprint LT-GN-16_M (SOP, 16-Leads, Body 4.9x3.9mm, Pitch 0.635mm, IPC Low Density)
pins: 1 SHDN (in) "Shutdown Pin. The IC is shut down when SHDN is tied to V+. An internal current source pulls this pin to V- when floating.", 2 IN- (in) "Inverting Analog Input.", 3 IN+ (in) "Noninverting Analog Input.", 4 V- (power) "Negative Supply.", 5 HOLD_~{THRU} (in) "TTL Level Input for Parallel Control Mode. When HOLD_T\H\R\U\ is high, the parallel data is latched in an internal D-latch.", 6 ~{CS}(D0) (in) "TTL Level Input. When in serial control mode, this pin is the chip select input (active low); in parallel control mode, this pin is the LSB of the parallel gain control code.", 7 DIN(D1) (in) "TTL Level Input. When in serial control mode, this pin is the serial input data; in parallel mode, this pin is the second LSB of the parallel gain control code.", 8 CLK(D2) (in) "TTL Level Input. When in serial control mode, this pin is the clock of the serial interface; in parallel mode, this pin is the third LSB of the parallel gain control code.", 9 DOUT(D3) (io) "TTL Level Input. When in serial control mode, this pin is the output of the serial data; in parallel mode, this pin is the MSB of the 4-bit parallel gain control code.", 10 DGND (power) "Digital Ground.", 11 PAR_~{SER} (in) "Interface Selection Input. When tied to V+, the interface is in parallel mode, i.e., the PGA gain is defined by the parallel codes (D3 ~ D0), i.e., C\S\(D0), DATA(D1), CLK(D2), and DOUT(D3). When PARALLEL_S\E\R\I\A\L\ pin is (See Datasheet)", 12 NC "Not connected", 13 REF (in) "Voltage Reference for PGA output.", 14 SENSE (in) "Sense Pin. When the PGA drives a low resistance load and the interconnect resistance between the OUT pin and the load is not negligible, tying the SENSE pin as close as possible to the load can improve the gain accuracy.", 15 OUT (hiz) "Amplifier Output. The typical current sourcing/sinking of the OUT pin is 1mA. For minimum gain error, the load resistance should be 1k or greater (refer to the Output Voltage Swing vs Output Current and Gain Error vs Load (See Datasheet)", 16 V+ (power) "Positive Supply."